# Altium schematic symbol library JST_S2B_PH_SM4_TB_LF_SN_.SchLib: 1 symbol
Pins are listed as number, name and electrical type; pins without a type are passive.

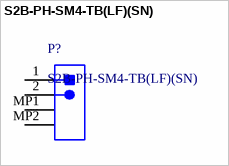
[diagram p0: symbol S2B-PH-SM4-TB(LF)(SN)]

## S2B-PH-SM4-TB(LF)(SN)
designator P?
Male Header, Pitch 2 mm, 1 x 2 Position, Height 5.5 mm, -25 to 85 degC, RoHS, Tape and Reel; Current Rating: 3 A; RoHSCompliant: True; Min Operating Temperature: -65degC; Width: 2.34 mm; Pins: 40; ComponentLink1Description: Manufacturer URL; ComponentLink2Description: Datasheet; DatasheetVersion: Dec-12; ComponentLink1URL: http://www.jst.com/home2.html; Contact Plating: Tin; ComponentLink2URL: http://www.jst-mfg.com/product/pdf/eng/ePH.pdf; PackageReference: S2B-PH-SM4-TB(LF)(SN)-2; Mount: Through Hole; Contact Finish: Lead; Length: 101.19 mm; Radiation Hardening: No; Lead Pitch: 0.1 inch; Max Operating Temperature: 105degC; Colour: Black; Package Quantity: 100; Height: 8.13 mm; Packaging: Bulk; PackageDescription: Male Header, Pitch 2 mm, 1 x 2 Position, Height 5.5 mm; Contact Material: Bronze; PartNumber: S2B-PH-SM4-TB(LF)(SN)
footprint JST- S2B-PH-SM4-TB(LF)(SN)-2_V
pins: 1, 2, MP1, MP2